# Altium footprint library Synthiam-new.PcbLib: 262 footprints (part 11 of 17)
Each footprint in its own frame and in the unit in brackets; x right, y up, seen from the top. Pads: shape width x height; smd on the part's side, far side on the other; paste and mask are expansions set on the pad; w line width, h text height; cw(c..) or ccw(c..) is an arc to the next point about the centre after c.
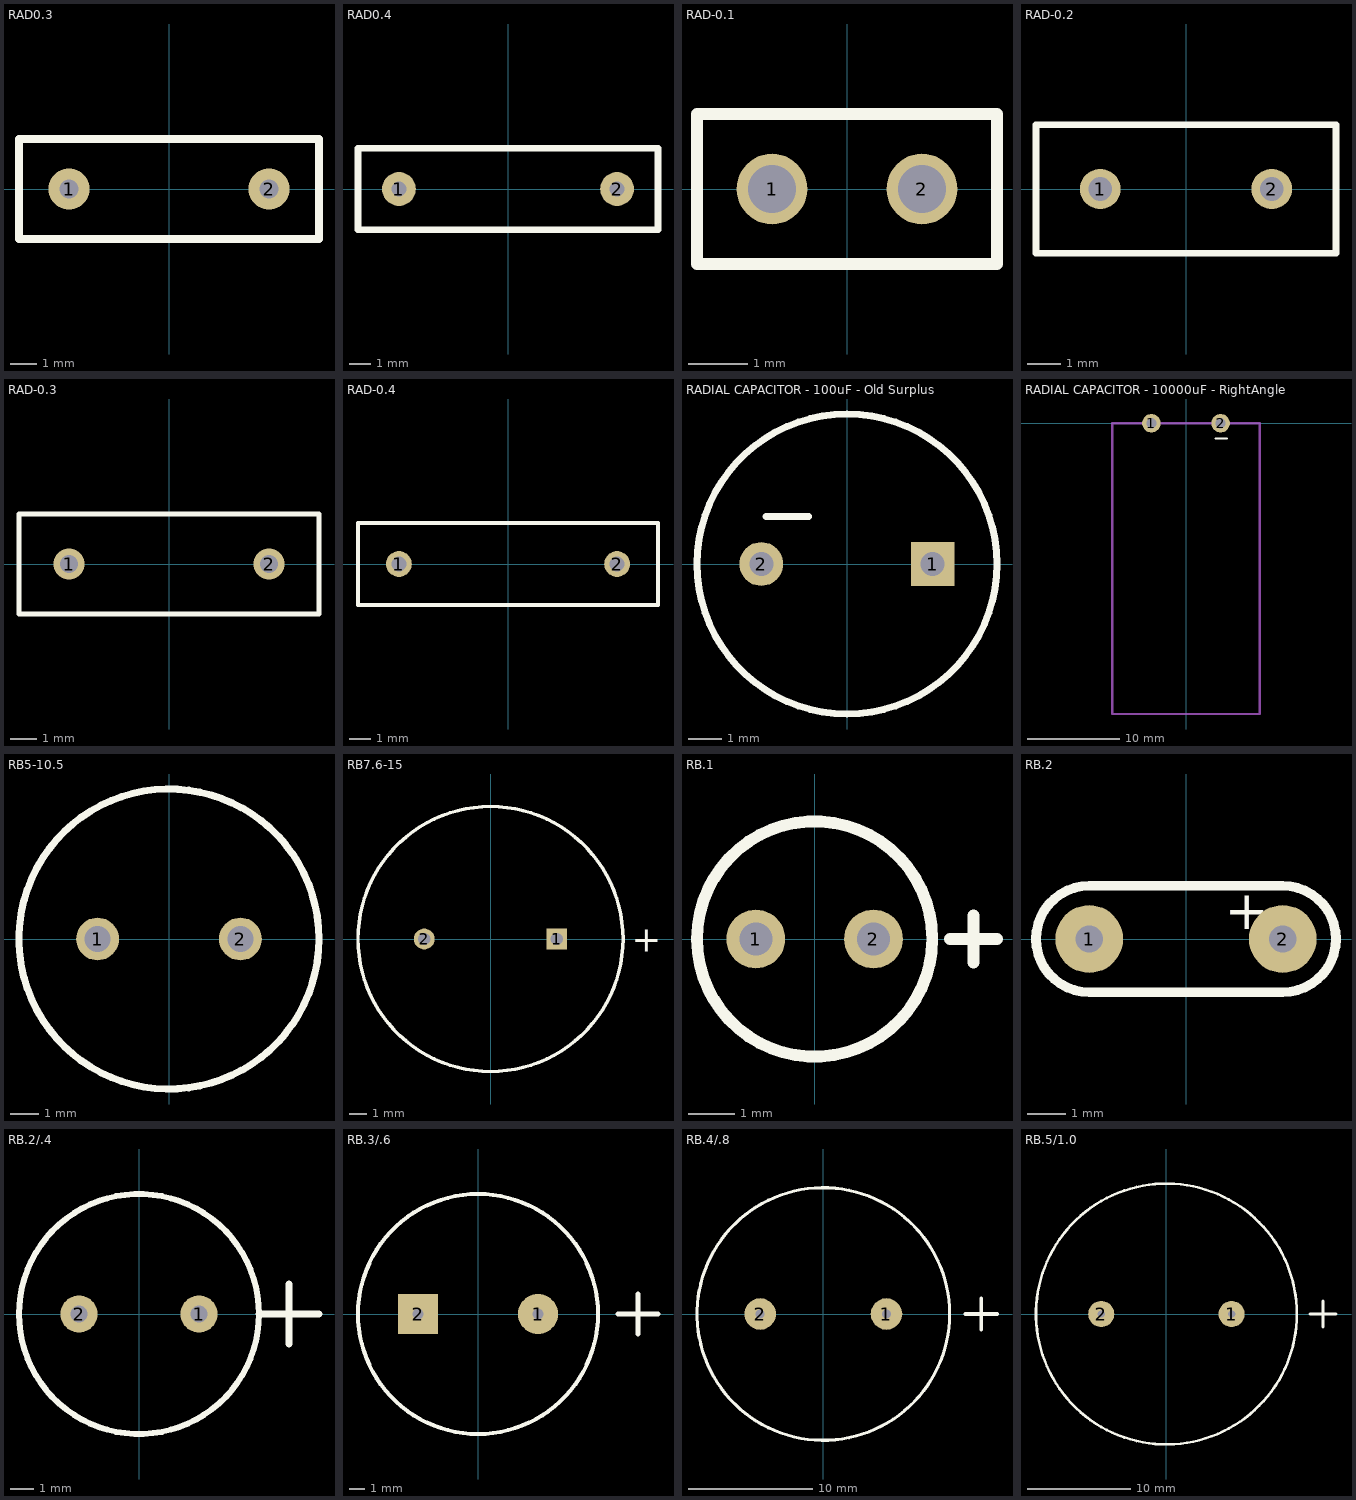
[diagram p10: the footprints below, top view; thin cyan lines are the x and y axes]

## RAD0.3 [mil]
pads (2):
  round 62 hole 28: 1(-150,0) 2(150,0)
Top Overlay:
  lines w12: -225,-75 225,-75 225,75 -225,75 -225,-75

## RAD0.4 [mil]
pads (2):
  round 62 hole 28: 1(-200,0) 2(200,0)
Top Overlay:
  lines w12: -275,-75 275,-75 275,75 -275,75 -275,-75

## RAD-0.1 [mm]
pads (2):
  round 1.2 hole 0.813: 1(-1.27,0) 2(1.27,0)
Top Overlay:
  lines w0.2: -2.54,-1.27 -2.54,1.27 2.54,1.27 2.54,-1.27 -2.54,-1.27

## RAD-0.2 [mm]
pads (2):
  round 1.2 hole 0.7: 1(-2.54,0) 2(2.54,0)
Top Overlay:
  lines w0.2: -4.445,-1.905 4.445,-1.905 4.445,1.905 -4.445,1.905 -4.445,-1.905

## RAD-0.3 [mm]
pads (2):
  round 1.2 hole 0.7: 1(-3.81,0) 2(3.81,0)
Top Overlay:
  lines w0.2: -5.715,-1.905 -5.715,1.905 5.715,1.905 5.715,-1.905 -5.715,-1.905

## RAD-0.4 [mm]
pads (2):
  round 1.2 hole 0.7: 1(-5.08,0) 2(5.08,0)
Top Overlay:
  lines w0.2: -6.985,-1.905 -6.985,1.905 6.985,1.905 6.985,-1.905 -6.985,-1.905

## RADIAL CAPACITOR - 100uF - Old Surplus [mm]
pads (2):
  rect 1.3x1.3 hole 0.711: 1(2.54,0)
  round 1.3 hole 0.711: 2(-2.54,0)
Top Overlay:
  circle w0.203: c0,0 r4.445
  lines w0.203: -2.405,1.405 -1.135,1.405

## RADIAL CAPACITOR - 10000uF - RightAngle [mm]
pads (2):
  round 2 hole 1.1: 1(-3.75,0) 2(3.75,0)
Top Overlay:
  lines w0.203: 3.2,-1.651 4.47,-1.651
Mechanical 1:
  lines w0.254: -8,-31.5 8,-31.5 8,0 -8,0 -8,-31.5

## RB5-10.5 [mm]
pads (2):
  round 1.5 hole 0.9: 1(-2.5,0) 2(2.5,0)
Top Overlay:
  circle w0.25: c0,0 r5.25
Mechanical 1:
  circle w0.02: c0,0 r5.25

## RB7.6-15 [mm]
pads (2):
  rect 1.2x1.2 hole 0.7: 1(3.81,0)
  round 1.2 hole 0.7: 2(-3.81,0)
Top Overlay:
  circle w0.2: c0,0 r7.62
  text "+" at 8.132,-0.737 h1.5

## RB.1 [mil]
pads (2):
  round 50 hole 28: 1(-50,0) 2(50,0)
Top Overlay:
  circle w10: c0,0 r100
  lines w10: 115,0 155,0 ; 135,-20 135,20

## RB.2 [mil]
pads (2):
  round 70 hole 28: 1(-100,0) 2(100,0)
Top Overlay:
  lines w10: -100,-55 100,-55 ccw(c100,0) 100,55 -100,55 ccw(c-100,0) -100,-55
  text "+" at 40,10 h40

## RB.2/.4 [mil]
pads (2):
  round 62 hole 28: 1(100,0) 2(-100,0)
Top Overlay:
  circle w10: c0,0 r200
  lines w12: 200,0 300,0 ; 250,-50 250,50

## RB.3/.6 [mil]
pads (2):
  round 100 hole 28: 1(150,0)
  rect 100x100 hole 28: 2(-150,0)
Top Overlay:
  circle w10: c0,0 r300
  lines w12: 350,0 450,0 ; 400,-50 400,50

## RB.4/.8 [mil]
pads (2):
  round 100 hole 28: 1(200,0) 2(-200,0)
Top Overlay:
  circle w10: c0,0 r400
  lines w12: 450,0 550,0 ; 500,-50 500,50

## RB.5/1.0 [mil]
pads (2):
  round 100 hole 28: 1(250,0) 2(-250,0)
Top Overlay:
  circle w10: c0,0 r500
  lines w12: 550,0 650,0 ; 600,-50 600,50